# Altium footprint library PASSIVES.PcbLib: 7 footprints
Each footprint in its own frame and in the unit in brackets; x right, y up, seen from the top. Pads: shape width x height; smd on the part's side, far side on the other; paste and mask are expansions set on the pad; w line width, h text height; cw(c..) or ccw(c..) is an arc to the next point about the centre after c.
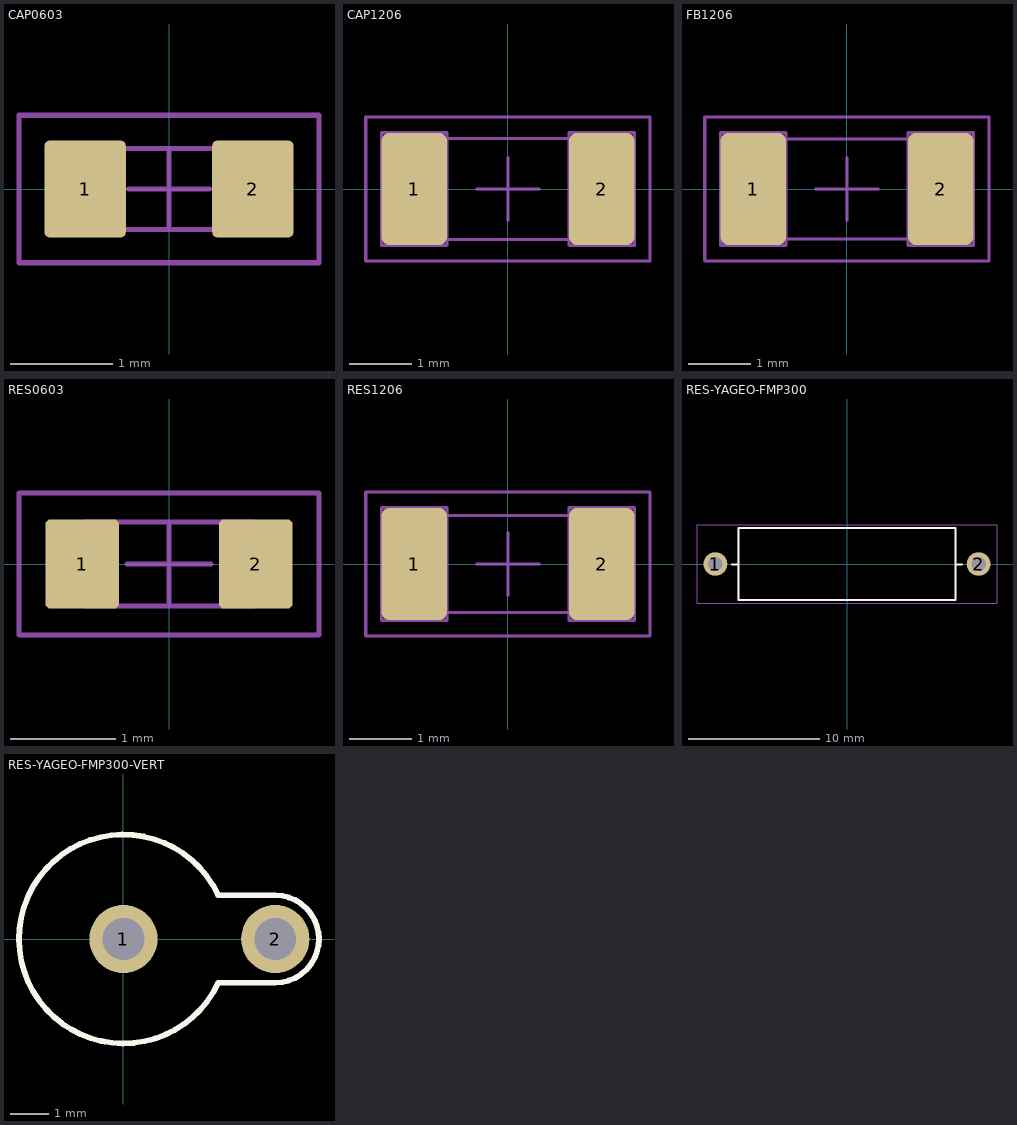
[diagram p0: the footprints below, top view; thin cyan lines are the x and y axes]

## CAP0603 [mm] "Chip Capacitor, 2-Leads, Body 1.60x0.80mm, IPC Medium Density"
height 0.8
pads (2):
  rrect12% 0.8x0.95 smd mask+0.05: 1(-0.825,0) 2(0.825,0)
Top Courtyard:
  lines w0.05: -0.4,0 0.4,0 ; 0,-0.4 0,0.4 ; -1.475,-0.725 -1.475,0.725 1.475,0.725 1.475,-0.725 -1.475,-0.725
Top Assembly:
  lines w0.05: -0.8,-0.4 -0.8,0.4 0.8,0.4 0.8,-0.4 -0.8,-0.4
3D body "CAPCP1608X08N.step": height 0.8, standoff 0, extent -0.8,-0.4 0.8,0.4

## CAP1206 [mm] "CAPACITOR, CHIP 1206 (3216) 0.85MM THICK"
height 0.86
pads (2):
  rrect25% 1.05x1.8 smd paste+0 mask+0.075: 1(-1.5,0) 2(1.5,0)
Top Courtyard:
  lines w0.05: -0.5,0 0,0 ; 0,-0.5 0,0 ; 0,0.5 0,0 ; 0.5,0 0,0 ; -2.275,-1.15 -2.275,1.15 2.275,1.15 2.275,-1.15 -2.275,-1.15
Top Assembly:
  lines w0.05: -2.025,-0.9 -2.025,0.9 -0.975,0.9 -0.975,-0.9 -2.025,-0.9 ; -1.61,-0.81 -1.61,0.81 1.61,0.81 1.61,-0.81 -1.61,-0.81 ; 0.975,-0.9 0.975,0.9 2.025,0.9 2.025,-0.9 0.975,-0.9
3D body "MLCC capacitor 1206 - 0.85mm .STEP": height 0.86, standoff -0.01, extent -1.61,-0.81 1.61,0.81

## FB1206 [mm] "FERRITE BEAD, CHIP 1206 (3216)"
height 1.3
pads (2):
  rrect25% 1.05x1.8 smd paste+0 mask+0.075: 1(-1.5,0) 2(1.5,0)
Top Courtyard:
  lines w0.05: -0.5,0 0,0 ; 0,-0.5 0,0 ; 0,0.5 0,0 ; 0.5,0 0,0 ; -2.275,-1.15 2.275,-1.15 2.275,1.15 -2.275,1.15 -2.275,-1.15
Top Assembly:
  lines w0.05: -2.025,-0.9 -0.975,-0.9 -0.975,0.9 -2.025,0.9 -2.025,-0.9 ; -1.6,-0.8 1.6,-0.8 1.6,0.8 -1.6,0.8 -1.6,-0.8 ; 0.975,-0.9 2.025,-0.9 2.025,0.9 0.975,0.9 0.975,-0.9
3D body "Chip Inductor 3216.STEP": height 1.3, standoff 0, extent -1.6,-0.8 1.6,0.8

## RES0603 [mm] "Chip Resistor, 2-Leads, Body 1.60x0.80mm, IPC Medium Density"
height 0.45
pads (2):
  rrect14% 0.7x0.85 smd mask+0.05: 1(-0.825,0) 2(0.825,0)
Top Courtyard:
  lines w0.05: -0.4,0 0,0 ; 0,-0.4 0,0 ; 0,0.4 0,0 ; 0.4,0 0,0 ; -1.425,-0.675 1.425,-0.675 1.425,0.675 -1.425,0.675 -1.425,-0.675
Top Assembly:
  lines w0.05: -0.8,-0.4 0.8,-0.4 0.8,0.4 -0.8,0.4 -0.8,-0.4
3D body "RESC1608X04N.step": height 0.45, standoff 0, extent -0.8,-0.4 0.8,0.4

## RES1206 [mm] "RESISTOR, CHIP 1206 (3216)"
height 0.474
pads (2):
  rrect25% 1.05x1.8 smd paste+0 mask+0.075: 1(-1.5,0) 2(1.5,0)
Top Courtyard:
  lines w0.05: -0.5,0 0,0 ; 0,-0.5 0,0 ; 0,0.5 0,0 ; 0.5,0 0,0 ; -2.275,-1.15 -2.275,1.15 2.275,1.15 2.275,-1.15 -2.275,-1.15
Top Assembly:
  lines w0.05: -2.025,-0.9 -2.025,0.9 -0.975,0.9 -0.975,-0.9 -2.025,-0.9 ; -1.55,-0.776 -1.55,0.776 1.55,0.776 1.55,-0.776 -1.55,-0.776 ; 0.975,-0.9 0.975,0.9 2.025,0.9 2.025,-0.9 0.975,-0.9
3D body "User Library-R1206.step": height 0.47, standoff 0, extent -1.55,-0.776 1.55,0.776

## RES-YAGEO-FMP300 [mm] "YAGEO FMP300, 3W, 20mm Pitch, 6mm Body Dia"
pads (2):
  round 1.8 hole 1.1 paste-2539.97 mask-1: 1(-10,0) 2(10,0)
Top Overlay:
  lines w0.15: -8.75,-0.025 -8.25,-0.025 ; 8.25,-0.025 8.75,-0.025 ; -8.25,-0.025 -8.25,-2.75 8.25,-2.75 8.25,2.75 -8.25,2.75 -8.25,-0.025
Top Courtyard:
  lines w0.05: -11.4,-3 -11.4,0 -11.4,3 11.4,3 11.4,0.025 11.4,-3 -11.4,-3
Top Assembly:
  lines w0.05: -8.25,-2.75 8.25,-2.75 8.25,1.925 8.25,2.75 -8.25,2.75 -8.25,-2.75

## RES-YAGEO-FMP300-VERT [mm] "YAGEO FMP300, 3W, 4mm Pitch, 6mm Body Dia, VERTICAL"
pads (2):
  round 1.8 hole 1.1 paste-2539.97 mask-1: 1(0,0) 2(4,0)
Top Overlay:
  lines w0.15: 2.489,1.168 ccw(c2.508,1.168) 2.508,1.15 4,1.15 cw(c4,0) 4,-1.15 2.498,-1.15 cw(c0,0) 2.489,1.168
3D body "FMP300.STEP": height 18.51, standoff -1.49, extent -2.75,-2.738 2.75,2.738